# Altium footprint library PCB - POWER INDUCTORS - MURATA LQH31.PcbLib: 1 footprints
Each footprint in its own frame and in the unit in brackets; x right, y up, seen from the top. Pads: shape width x height; smd on the part's side, far side on the other; paste and mask are expansions set on the pad; w line width, h text height; cw(c..) or ccw(c..) is an arc to the next point about the centre after c.
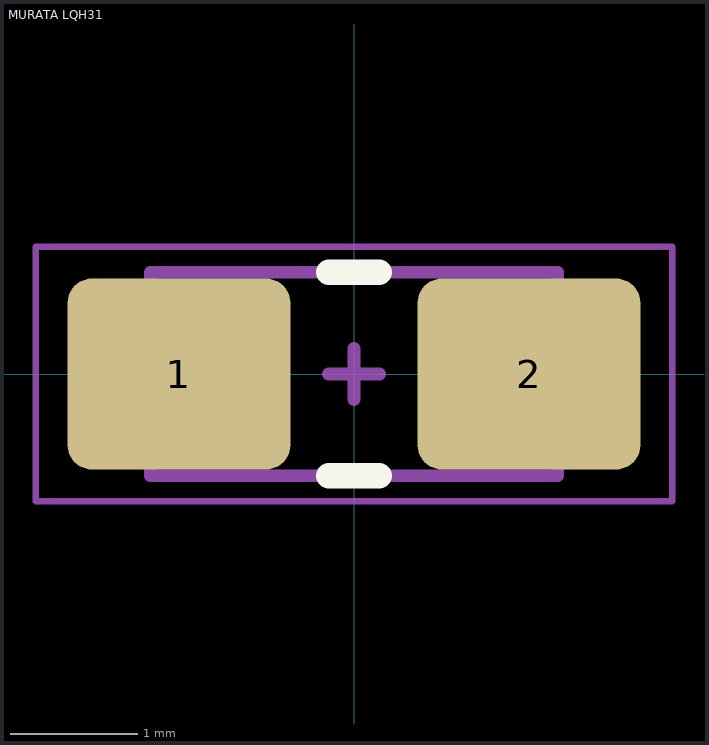
[diagram p0: the footprint, top view; thin cyan lines are the x and y axes]

## MURATA LQH31 [mm] "Power Inductor, 2-Leads,Murata, LQH31CN101K03L"
height 2
pads (2):
  rrect25% 1.75x1.5 smd: 1(-1.375,0) 2(1.375,0)
Top Overlay:
  lines w0.2: -0.2,-0.8 0.2,-0.8 ; -0.2,0.8 0.2,0.8
Top Assembly:
  lines w0.1: -1.6,-0.8 -1.6,0.8 1.6,0.8 1.6,-0.8 -1.6,-0.8
  text ".Designator" at -2.25,-0.226 h1
Top Component Center:
  lines w0.1: -0.2,0 0.2,0 ; 0,-0.2 0,0.2
Top Courtyard:
  lines w0.05: -2.5,-1 -2.5,1 2.5,1 2.5,-1 -2.5,-1
3D body "Murata - LQH31.step": height 2, standoff 0, extent -1.6,-0.8 1.6,0.8